# Altium footprint library PCB_Lib.PcbLib: 286 footprints (part 16 of 18)
Each footprint in its own frame and in the unit in brackets; x right, y up, seen from the top. Pads: shape width x height; smd on the part's side, far side on the other; paste and mask are expansions set on the pad; w line width, h text height; cw(c..) or ccw(c..) is an arc to the next point about the centre after c.
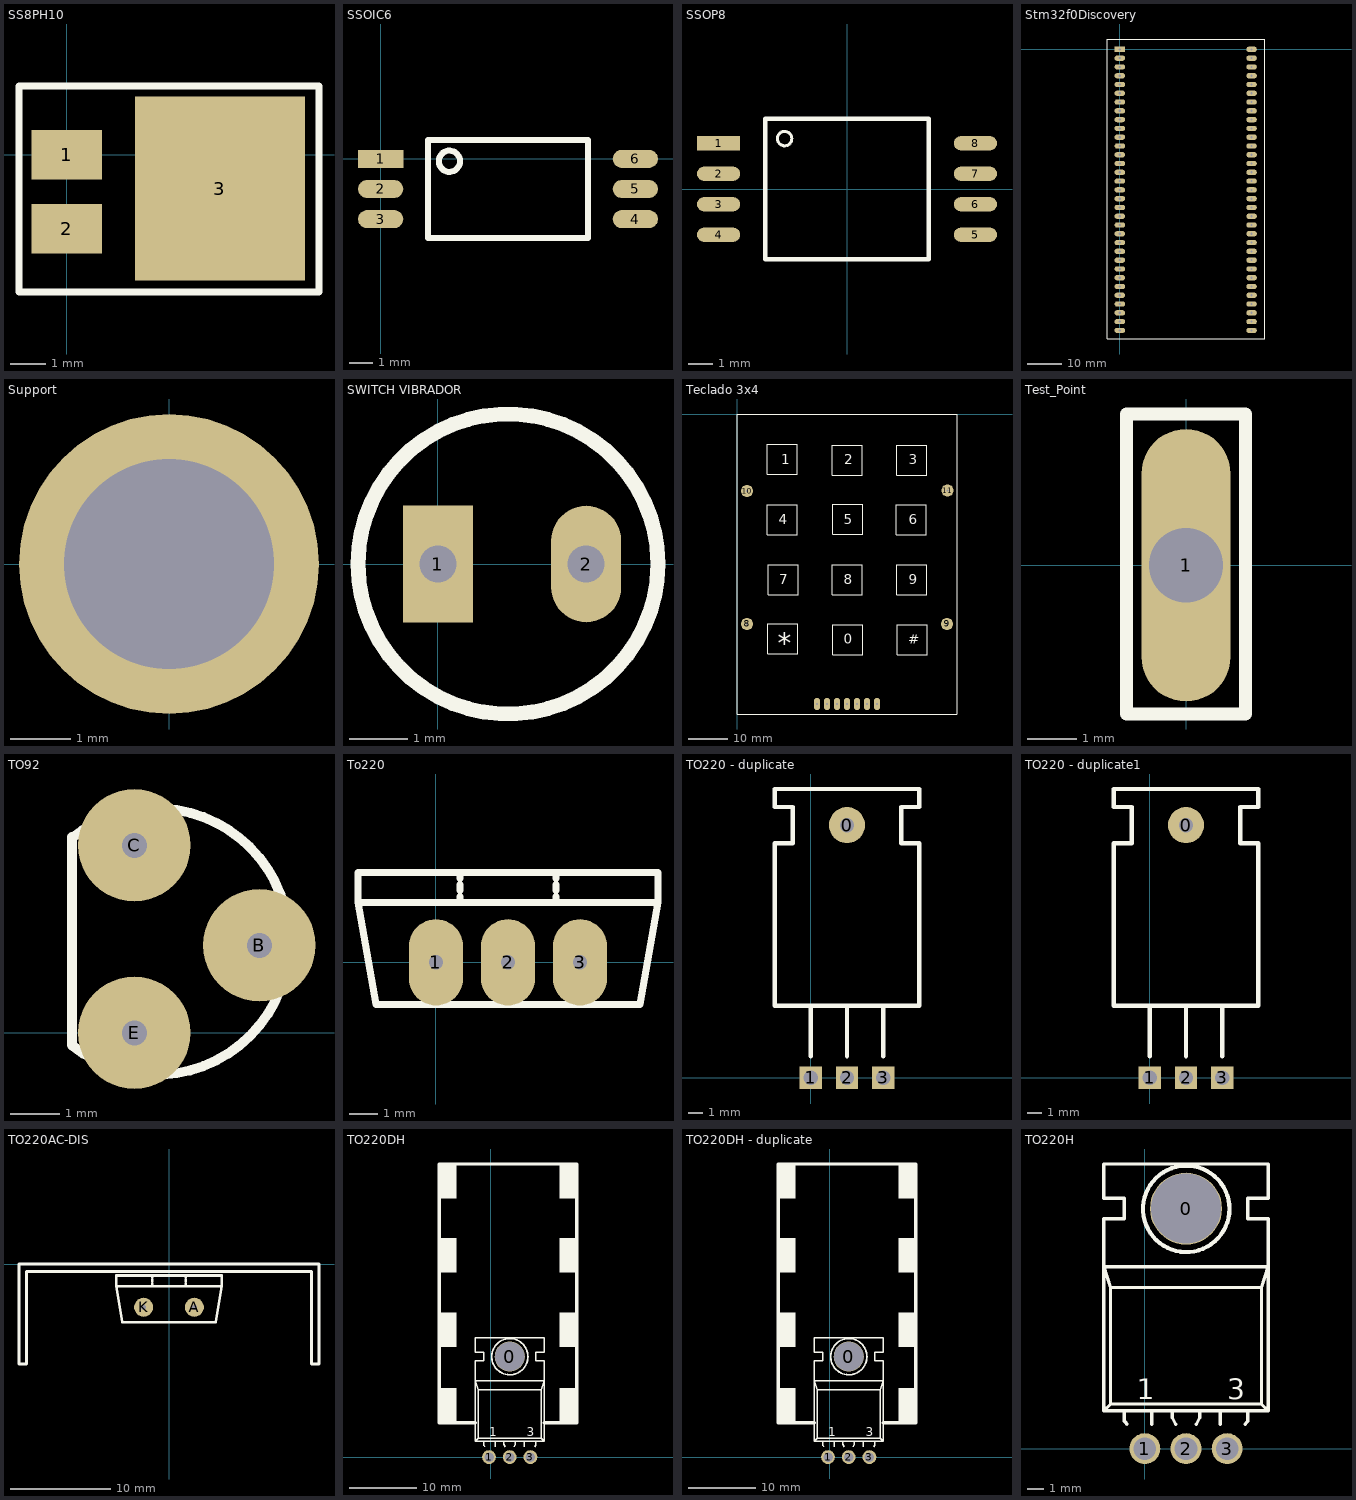
[diagram p15: the footprints below, top view; thin cyan lines are the x and y axes]

## SS8PH10 [mm]
pads (3):
  rect 2x1.4 smd: 1(0,0) 2(0,-2.08)
  rect 4.8x5.2 smd: 3(4.325,-0.95)
Top Overlay:
  lines w0.2: -1.35,-3.875 -1.35,1.95 7.125,1.95 7.125,-3.875 -1.35,-3.875

## SSOIC6 [mm] "Circuito de 6 patas SMD"
height 2.54
pads (6):
  rect 1.91x0.762 smd: 1(0,0)
  oval 1.91x0.762 smd: 2(0,-1.27) 3(0,-2.54) 4(10.74,-2.54) 5(10.74,-1.27) 6(10.74,0)
Top Overlay:
  circle w0.254: c2.9,-0.1 r0.447
  lines w0.254: 2,-3.34 8.74,-3.34 8.74,0.8 2,0.8 2,-3.34

## SSOP8 [mm]
pads (8):
  rect 1.8x0.6 smd: 1(-5.35,1.905)
  oval 1.8x0.6 smd: 2(-5.35,0.635) 3(-5.35,-0.635) 4(-5.35,-1.905) 5(5.35,-1.905) 6(5.35,-0.635) 7(5.35,0.635) 8(5.35,1.905)
Top Overlay:
  circle w0.127: c-2.6,2.1 r0.3
  lines w0.2: -3.404,-2.925 -3.404,2.925 3.404,2.925 3.404,-2.925 -3.404,-2.925

## Stm32f0Discovery [mil]
pads (66):
  rect 120x60 hole 25: 1(0,0)
  oval 120x60 hole 25: 2(0,-100) 3(0,-200) 4(0,-300) 5(0,-400) 6(0,-500) 7(0,-600) 8(0,-700) 9(0,-800) 10(0,-900) 11(0,-1000) 12(0,-1100) 13(0,-1200) 14(0,-1300) 15(0,-1400) 16(0,-1500) 17(0,-1600) 18(0,-1700) 19(0,-1800) 20(0,-1900) 21(0,-2000) 22(0,-2100) 23(0,-2200) 24(0,-2300) 25(0,-2400) 26(0,-2500) 27(0,-2600) 28(0,-2700) 29(0,-2800) 30(0,-2900) 31(0,-3000) 32(0,-3100) 33(0,-3200) 34(1500,-3200) 35(1500,-3100) 36(1500,-3000) 37(1500,-2900) 38(1500,-2800) 39(1500,-2700) 40(1500,-2600) 41(1500,-2500) 42(1500,-2400) 43(1500,-2300) 44(1500,-2200) 45(1500,-2100) 46(1500,-2000) 47(1500,-1900) 48(1500,-1800) 49(1500,-1700) 50(1500,-1600) 51(1500,-1500) 52(1500,-1400) 53(1500,-1300) 54(1500,-1200) 55(1500,-1100) 56(1500,-1000) 57(1500,-900) 58(1500,-800) 59(1500,-700) 60(1500,-600) 61(1500,-500) 62(1500,-400) 63(1500,-300) 64(1500,-200) 65(1500,-100) 66(1500,0)
Top Overlay:
  lines w10: -144,-3298 -144,118 1651,118 1649.98,-3298 -144,-3298

## Support [mm]
pads (1):
  round 5 hole 3.5: ""(0,0)

## SWITCH VIBRADOR [mm]
pads (2):
  rect 1.2x2 hole 0.635: 1(0,0)
  oval 1.2x2 hole 0.635: 2(2.54,0)
Top Overlay:
  circle w0.254: c1.2,0 r2.571

## Teclado 3x4 [mil]
height 100
pads (11):
  oval 60x120 hole 20: 1(800,-2900) 2(900,-2900) 3(1000,-2900) 4(1100,-2900) 5(1200,-2900) 6(1300,-2900) 7(1400,-2900)
  round 120 hole 20: 8(100,-2100) 9(2100,-2100) 10(100,-770) 11(2105,-765)
Top Overlay:
  lines w10: 0,-3000 2195,-3000 2200,-2995 2200,0 0,0 0,-3000 ; 300,-1205 300,-1010 300,-905 600,-905 600,-1205 300,-1205 ; 300,-600 300,-405 300,-300 600,-300 600,-600 300,-600 ; 305,-2400 305,-2205 305,-2100 605,-2100 605,-2400 305,-2400 ; 310,-1805 310,-1610 310,-1505 610,-1505 610,-1805 310,-1805 ; 950,-1805 950,-1610 950,-1505 1250,-1505 1250,-1805 950,-1805 ; 950,-610 950,-415 950,-310 1250,-310 1250,-610 950,-610 ; 955,-2410 955,-2215 955,-2110 1255,-2110 1255,-2410 955,-2410 ; 955,-1200 955,-1005 955,-900 1255,-900 1255,-1200 955,-1200 ; 1595,-1205 1595,-1010 1595,-905 1895,-905 1895,-1205 1595,-1205 ; 1600,-1805 1600,-1610 1600,-1505 1900,-1505 1900,-1805 1600,-1805 ; 1600,-610 1600,-415 1600,-310 1900,-310 1900,-610 1600,-610 ; 1605,-2410 1605,-2215 1605,-2110 1905,-2110 1905,-2410 1605,-2410
  text "#" at 1715,-2300 h100
  text "0" at 1065,-2300 h100
  text "*" at 405,-2390 h200
  text "7" at 420,-1700 h100
  text "8" at 1065,-1700 h100
  text "9" at 1720,-1700 h100
  text "6" at 1720,-1100 h100
  text "5" at 1065,-1100 h100
  text "4" at 415,-1100 h100
  text "3" at 1720,-500 h100
  text "2" at 1070,-500 h100
  text "1" at 440,-500 h100

## Test_Point [mm]
height 10
pads (1):
  oval 1.8x5.5 hole 1.5: 1(0,0)
Top Overlay:
  lines w0.254: -1.2,-3 1.2,-3 1.2,3.051 -1.2,3.051 -1.2,-3

## TO92 [mil] "BC547 - BC557"
pads (3):
  round 90 hole 20: B(300,70) C(200,150) E(200,0)
Top Overlay:
  lines w7.87: 150,155.79 cw(c217.13,72.9) 150,-10 150,156.67

## To220 [mil] "To220"
pads (3):
  oval 75x120 hole 20: 1(0,0) 2(100,0) 3(200,0)
Top Overlay:
  lines w10: 33.33,83.33 33.33,91.67 ; 33.33,100 33.33,108.33 ; 33.33,116.67 33.33,125 ; 166.67,83.33 166.67,91.67 ; 166.67,100 166.67,108.33 ; 166.67,116.67 166.67,125 ; -108.33,83.33 -108.33,125 308.33,125 308.33,83.33 ; -108.33,83.33 -83.33,-58.33 283.33,-58.33 308.33,83.33 ; -108.33,83.33 308.33,83.33

## TO220 - duplicate [mil]
pads (4):
  round 100 hole 40: 0(100,700)
  rect 62x62 hole 40: 1(0,0) 2(100,0) 3(200,0)
Top Overlay:
  lines w12: 0,60 0,200 ; 100,60 100,200 ; 200,60 200,200 ; -100,200 -100,650 -50,650 -50,750 -100,750 -100,800 300,800 300,750 250,750 250,650 300,650 300,200 -100,200

## TO220 - duplicate1 [mil]
pads (4):
  round 100 hole 40: 0(100,700)
  rect 62x62 hole 40: 1(0,0) 2(100,0) 3(200,0)
Top Overlay:
  lines w12: 0,60 0,200 ; 100,60 100,200 ; 200,60 200,200 ; -100,200 -100,650 -50,650 -50,750 -100,750 -100,800 300,800 300,750 250,750 250,650 300,650 300,200 -100,200

## TO220AC-DIS [mil] "TO 220 con disipador"
pads (2):
  round 75 hole 20: A(100,-168.31) K(-100,-168.31)
Top Overlay:
  lines w10: -66.67,-84.97 -66.67,-76.64 ; -66.67,-68.31 -66.67,-59.97 ; -66.67,-51.64 -66.67,-43.31 ; 66.67,-84.97 66.67,-76.64 ; 66.67,-68.31 66.67,-59.97 ; 66.67,-51.64 66.67,-43.31 ; -208.33,-84.97 -208.33,-43.31 208.33,-43.31 208.33,-84.97 ; -208.33,-84.97 -183.33,-226.64 183.33,-226.64 208.33,-84.97 ; -208.33,-84.97 208.33,-84.97 ; -590.55,-391.73 -561.02,-391.73 -561.02,-352.36 -561.02,-27.56 561.02,-27.56 561.02,-391.73 590.55,-391.73 590.55,1.97 0,1.97 -590.55,1.97 -590.55,-391.73

## TO220DH [mil]
pads (4):
  round 175 hole 170: 0(110,583.33)
  round 80 hole 55: 1(-10,0) 2(110,0) 3(230,0)
Top Overlay:
  circle w10: c110.67,582.53 r105
  rectangle: 400,1500 500,1700
  rectangle: 400,1070 500,1270
  rectangle: 400,640 500,840
  rectangle: 400,200 500,400
  rectangle: -300,1500 -200,1700
  rectangle: -300,1070 -200,1270
  rectangle: -300,640 -200,840
  rectangle: -300,200 -200,400
  lines w7.87: -40,66.67 -40,91.67 ; -38.11,65.41 -33.58,59.05 ; 26.67,59.05 26.67,91.67 ; 76.67,91.67 76.67,75 85,59.05 ; 135,59.05 143.33,75 143.33,91.67 ; 193.33,59.05 193.33,91.67 ; 253.9,59.05 260.31,67.61 ; 260,66.67 260,91.67 ; -90,91.67 -90,558.33 -40,558.33 -40,608.33 -90,608.33 -90,691.67 310,691.67 310,608.33 260,608.33 260,558.33 310,558.33 310,91.67 ; -90,91.67 310,91.67 ; -90,91.67 -73.33,108.33 ; -73.33,108.33 -73.33,391.67 ; -73.33,108.33 293.33,108.33 ; -73.33,391.67 -90,441.67 310,441.67 293.33,391.67 ; -73.33,391.67 293.33,391.67 ; 293.33,108.33 293.33,391.67 ; 293.33,108.33 310,91.67
  lines w20: -90,200 -300,200 -300,1700 500,1700 500,200 310,200
  text "3" at 210,120 h50
  text "1" at -10,120 h50

## TO220DH - duplicate [mil]
pads (4):
  round 175 hole 170: 0(110,583.33)
  round 80 hole 55: 1(-10,0) 2(110,0) 3(230,0)
Top Overlay:
  circle w10: c110.67,582.53 r105
  rectangle: -300,200 -200,400
  rectangle: -300,640 -200,840
  rectangle: -300,1070 -200,1270
  rectangle: -300,1500 -200,1700
  rectangle: 400,200 500,400
  rectangle: 400,640 500,840
  rectangle: 400,1070 500,1270
  rectangle: 400,1500 500,1700
  lines w7.87: -40,66.67 -40,91.67 ; -38.11,65.41 -33.58,59.05 ; 26.67,59.05 26.67,91.67 ; 76.67,91.67 76.67,75 85,59.05 ; 135,59.05 143.33,75 143.33,91.67 ; 193.33,59.05 193.33,91.67 ; 253.9,59.05 260.31,67.61 ; 260,66.67 260,91.67 ; -90,91.67 -73.33,108.33 ; -90,91.67 310,91.67 ; -90,91.67 -90,558.33 -40,558.33 -40,608.33 -90,608.33 -90,691.67 310,691.67 310,608.33 260,608.33 260,558.33 310,558.33 310,91.67 ; -73.33,108.33 293.33,108.33 ; -73.33,108.33 -73.33,391.67 ; -73.33,391.67 293.33,391.67 ; -73.33,391.67 -90,441.67 310,441.67 293.33,391.67 ; 293.33,108.33 310,91.67 ; 293.33,108.33 293.33,391.67
  lines w20: -90,200 -300,200 -300,1700 500,1700 500,200 310,200
  text "1" at -10,120 h50
  text "3" at 210,120 h50

## TO220H [mil]
pads (4):
  round 175 hole 170: 0(100,583.33)
  round 75 hole 55: 1(0,0) 2(100,0) 3(200,0)
Top Overlay:
  circle w10: c100.67,582.53 r105
  lines w7.87: -50,66.67 -50,91.67 ; -48.11,65.41 -43.58,59.05 ; 16.67,59.05 16.67,91.67 ; 66.67,91.67 66.67,75 75,59.05 ; 125,59.05 133.33,75 133.33,91.67 ; 183.33,59.05 183.33,91.67 ; 243.9,59.05 250.31,67.61 ; 250,66.67 250,91.67 ; -100,91.67 -83.33,108.33 ; -100,91.67 300,91.67 ; -100,91.67 -100,558.33 -50,558.33 -50,608.33 -100,608.33 -100,691.67 300,691.67 300,608.33 250,608.33 250,558.33 300,558.33 300,91.67 ; -83.33,108.33 283.33,108.33 ; -83.33,108.33 -83.33,391.67 ; -83.33,391.67 283.33,391.67 ; -83.33,391.67 -100,441.67 300,441.67 283.33,391.67 ; 283.33,108.33 300,91.67 ; 283.33,108.33 283.33,391.67
  text "1" at -20,120 h50
  text "3" at 200,120 h50